# Altium schematic symbol library SI2301CDS-T1-GE3.SchLib: 1 symbol
Pins are listed as number, name and electrical type; pins without a type are passive.

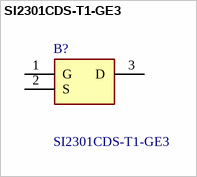
[diagram p0: symbol SI2301CDS-T1-GE3]

## SI2301CDS-T1-GE3
designator B?
SI2301CDS-T1-GE3, P-channel MOSFET Transistor 2.3 A 20 V, 3-Pin SOT-23, TO-236; Manufacturer_Name: Vishay; Geometry.Height: 1.12mm; Manufacturer_Part_Number: SI2301CDS-T1-GE3; Mouser Part Number: 781-SI2301CDS-T1-GE3; Mouser Price/Stock: https://www.mouser.co.uk/ProductDetail/Vishay-Semiconductors/SI2301CDS-T1-GE3?qs=IRuQNBqMOcnWEzfGi6KYYw%3D%3D; Arrow Part Number: SI2301CDS-T1-GE3; Arrow Price/Stock: https://www.arrow.com/en/products/si2301cds-t1-ge3/vishay?utm_currency=USD&region=europe; Datasheet Link: http://www.vishay.com/docs/68741/si2301cd.pdf
footprint SOT95P237X112-3N
pins: 1 G, 2 S, 3 D